# Altium schematic symbol library W25Q64.SCHLIB: 1 symbol
Pins are listed as number, name and electrical type; pins without a type are passive.

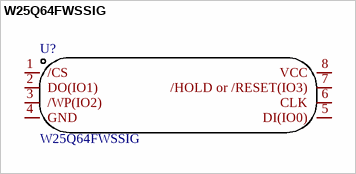
[diagram p0: symbol W25Q64FWSSIG]

## W25Q64FWSSIG
designator U?
Manufacturer: WINBOND(华邦); Add into BOM: yes; Symbol: W25Q64FWSSIG; Device: W25Q64FWSSIG; LCSC Part Name: W25Q64FWSSIG 停产; Supplier Part: C255341; Manufacturer Part: W25Q64FWSSIG; Supplier Footprint: SOIC-8-208mil; JLCPCB Part Class: 扩展库; Datasheet: https://atta.szlcsc.com/upload/public/pdf/source/20180725/C255341_81A36CB662A838CC98585C5516D19112.pdf; Supplier: LCSC; Convert to PCB: yes; Name: W25Q64FWSSIG
footprint SOIC-8_L5.3-W5.3-P1.27-LS8.0-BL
pins: 1 /CS, 2 DO(IO1), 3 /WP(IO2), 4 GND, 5 DI(IO0), 6 CLK, 7 /HOLD or /RESET(IO3), 8 VCC